# Altium schematic symbol library MAX809.SchLib: 1 symbol
Pins are listed as number, name and electrical type; pins without a type are passive.

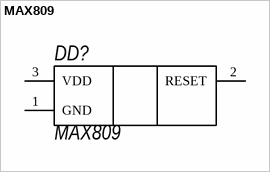
[diagram p0: symbol MAX809]

## MAX809
designator DD?
pins: 1 GND, 2 RESET, 3 VDD